# EAGLE library part CAT6095 (library on-semi)
Digital Output Temperature Sensor
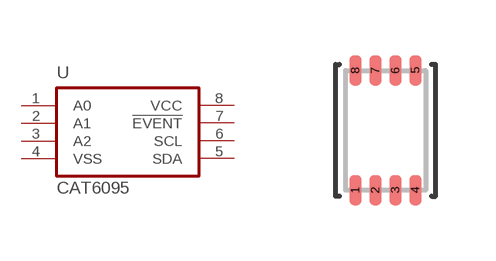
[diagram p0: symbol with the pads of TDFN08; footprint TDFN08]

Designator prefix U

## CAT6095 (P1I: o)  [TDFN08]
1  A0  in
2  A1  in
3  A2  in
4  VSS  pwr
5  SDA
6  SCL  in
7  !EVENT!  oc
8  VCC  pwr

## Footprint TDFN08 (pad centres in mm)
TDFN 8-pad - Thin Dual Flat No Lead Package 2 x 3 x 0.75 mm Body
smd 0.3 x 0.75: 1 -0.75,-1.5; 2 -0.25,-1.5; 3 0.25,-1.5; 4 0.75,-1.5; 5 0.75,1.5; 6 0.25,1.5; 7 -0.25,1.5; 8 -0.75,1.5